# EAGLE library part WE-MLS_3LINES (library Wurth_EMC Components_WE-MLS)
WE-MLS Multiline EMI Suppression Ferrite Characteristics High impedance common mode inductor with 2x2 windings made by PCB line connection High rated current with typ. 4 A Broadband filtering because of the NiZn-ferrite core RF common mode inductor for 2, 3 or 4 lines in one component Compact size Operating temperature: –25 ºC to +125 ºC With the appropriate layout the impedance (i.e. 4 windings) respectively the current (parallel circuit) could be increased Applications Perfect suitable for absorption of common or differential mode interferences in the field of EMC With one turn the component performes like a 3 or 4 times common mode choke for the signal Multi-conductor systems and power electronics Filtering components of low voltage power supplies 4-line sensor application <https://www.we-online.com/katalog/media/o14821v209%20Family_WE-MLS.jpg> Details see: https://www.we-online.com/catalog/en/WE-MLS? Updated by Ella Wu 2020-04-23 2020(C) Wurth Elektronik
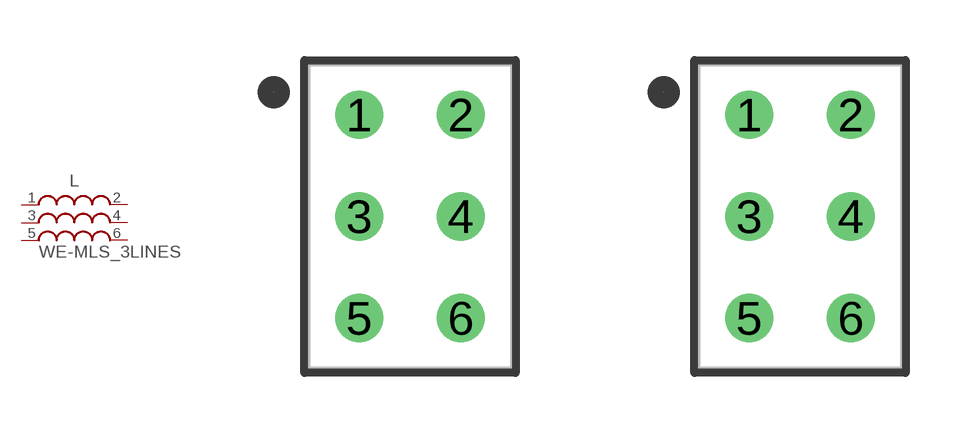
[diagram p0: symbol with the pads of WE-MLS_74273001; footprints WE-MLS_74273001, WE-MLS_74273031]

Designator prefix L

## WE-MLS_3LINES_74273001 (DATASHEET-URL: https://www.we-online.com/catalog/datasheet/74273001.pdf; IR: 4A; MOUNT: THT; PART-NUMBER: 74273001; RDC-MAX: 2mohm; TYPE: 3 Lines; VALUE: 264Ohm@100MHz; Z: 212Ohm@25MHz)  [WE-MLS_74273001]
1  1  pas
2  2  pas
3  3  pas
4  4  pas
5  5  pas
6  6  pas

## WE-MLS_3LINES_74273031 (DATASHEET-URL: https://www.we-online.com/catalog/datasheet/74273031.pdf; IR: 4A; MOUNT: THT; PART-NUMBER: 74273031; RDC-MAX: 2mohm; TYPE: 3 Lines; VALUE: 264Ohm@100MHz; Z: 212Ohm@25MHz)  [WE-MLS_74273031]
Pads as for WE-MLS_74273001

## Footprint WE-MLS_74273001 (pad centres in mm)
WE-MLS Multiline EMI Suppression Ferrite 3 Lines
drill 0.7: 1 -1.27,2.54; 2 1.27,2.54; 3 -1.27,0; 4 1.27,0; 5 -1.27,-2.54; 6 1.27,-2.54

## Footprint WE-MLS_74273031 (pad centres in mm)
WE-MLS Multiline EMI Suppression Ferrite 3 Lines
drill 0.7: 1 -1.27,2.54; 2 1.27,2.54; 3 -1.27,0; 4 1.27,0; 5 -1.27,-2.54; 6 1.27,-2.54